# EAGLE library part USBA-VERT (library monome-inc)
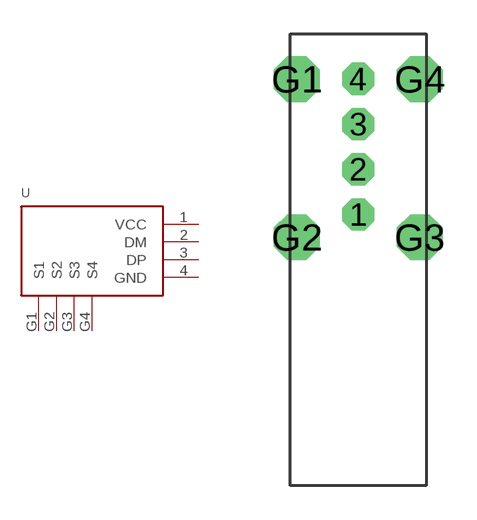
[diagram p8: symbol with the pads of USBA-VERT; footprint USBA-VERT]

Designator prefix -

## USBA-VERT  [USBA-VERT]
1  VCC
2  DM
3  DP
4  GND
G1  S1
G2  S2
G3  S3
G4  S4

## Footprint USBA-VERT (pad centres in mm)
drill 0.92 octagon: 1 0,-6; 2 0,-4; 3 0,-2; 4 0,0
drill 1.35 octagon: G1 -2.72,0; G2 -2.72,-7; G3 2.72,-7; G4 2.72,0